# Altium schematic symbol library Molex Pico SPOX 4 POS.SchLib: 1 symbol
Pins are listed as number, name and electrical type; pins without a type are passive.

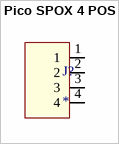
[diagram p0: symbol Pico SPOX 4 POS]

## Pico SPOX 4 POS
designator J?
footprint Molex Pico SPOX 4 POS
pins: 1, 2, 3, 4